# Altium schematic symbol library conn-coax.Schlib: 1 symbol
Pins are listed as number, name and electrical type; pins without a type are passive.

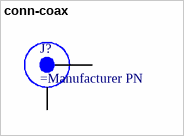
[diagram p0: symbol conn-coax]

## conn-coax
designator J?
Generic coaxial connector
pins: 1, 2